# Altium schematic symbol library LED.Schlib: 1 symbol
Pins are listed as number, name and electrical type; pins without a type are passive.

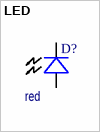
[diagram p0: symbol LED]

## LED
designator D?  value red  (hidden comment: LED)
Назначение: Светодиод; Наименование: SMD-LED; Потребление, Вт: 0,01
footprint LED-0805
pins: 1 A, 2 K